# Altium schematic symbol library MAX4885E.Schlib: 1 symbol
Pins are listed as number, name and electrical type; pins without a type are passive.

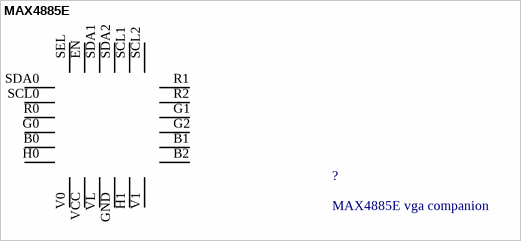
[diagram p0: symbol MAX4885E]

## MAX4885E
designator ?, comment MAX4885E vga companion
footprint TQFN24-EP
pins: B0 P$5, B1 P$14, B2 P$13, EN P$23, G0 P$4, G1 P$16, G2 P$15, GND P$10, H0 P$6, H1 P$11, R0 P$3, R1 P$18, R2 P$17, SCL0 P$2, SCL1 P$20, SCL2 P$19, SDA0 P$1, SDA1 P$22, SDA2 P$21, SEL P$24, V0 P$7, V1 P$12, VCC P$8, VL P$9